# Altium schematic symbol library Capacitor.SchLib: 2 symbols
Pins are listed as number, name and electrical type; pins without a type are passive.

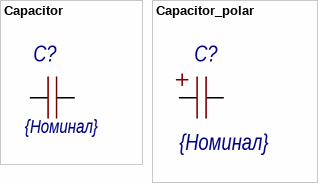
[diagram p0: symbols Capacitor to Capacitor_polar]

## Capacitor
designator C?  value {Номинал}
pins: 1, 2

## Capacitor_polar
designator C?  value {Номинал}
pins: 1, 2